# Altium schematic symbol library Converter_DCDC.SchLib: 544 symbols (part 4 of 6)
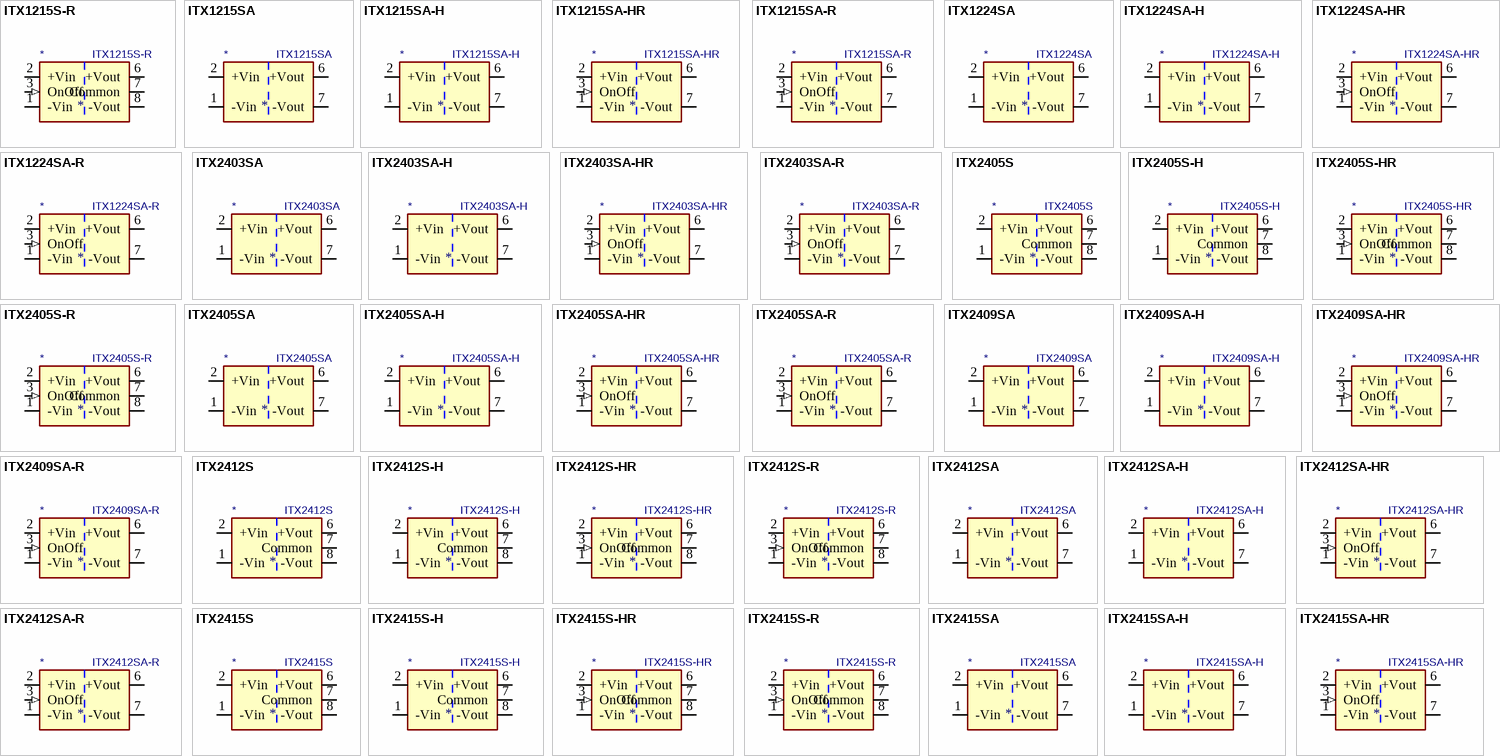
[diagram p16: symbols ITX1215S-R to ITX2415SA-HR]

## ITX1215SA
designator *  value ITX1215SA
ki_keywords: XP_POWER DC/DC isolated Converter module; ki_description: XP Power 6W, 1000 VDC Isolated DC/DC Converter Module, Fully Regulated Single Output Voltage 15V, ±400mA, 12V Input Voltage, SIP; ki_fp_filters: *XP?POWER?ITXxxxxSA*; Footprint: Converter_DCDC:Converter_DCDC_XP_POWER-ITXxxxxSA_THT; Supplier: https://www.xppower.com/pdfs/SF_ITX.pdf
footprint Converter_DCDC_XP_POWER-ITXxxxxSA_THT
pins: 1 -Vin (power), 2 +Vin (power), 6 +Vout (power), 7 -Vout (power), 8 NC (in) hidden

## ITX1215SA-H
designator *  value ITX1215SA-H
ki_keywords: XP_POWER DC/DC isolated Converter module; ki_description: XP Power 6W, 3000 VDC Isolated DC/DC Converter Module, Fully Regulated Single Output Voltage 15V, ±400mA, 12V Input Voltage, SIP; ki_fp_filters: *XP?POWER?ITXxxxxSA*; Footprint: Converter_DCDC:Converter_DCDC_XP_POWER-ITXxxxxSA_THT; Supplier: https://www.xppower.com/pdfs/SF_ITX.pdf
footprint Converter_DCDC_XP_POWER-ITXxxxxSA_THT
pins: 1 -Vin (power), 2 +Vin (power), 6 +Vout (power), 7 -Vout (power), 8 NC (in) hidden

## ITX1215SA-HR
designator *  value ITX1215SA-HR
ki_keywords: XP_POWER DC/DC isolated Converter module; ki_description: XP Power 6W, 3000 VDC Isolated DC/DC Converter Module, Remote Control, Fully Regulated Single Output Voltage 15V, ±400mA, 12V Input Voltage, SIP; ki_fp_filters: *XP?POWER?ITxxxxx*; Footprint: Converter_DCDC:Converter_DCDC_XP_POWER-ITxxxxxS_THT; Supplier: https://www.xppower.com/pdfs/SF_ITX.pdf
footprint Converter_DCDC_XP_POWER-ITxxxxxS_THT
pins: 1 -Vin (power), 2 +Vin (power), 3 OnOff (in), 5 NC (in) hidden, 6 +Vout (power), 7 -Vout (power), 8 NC (in) hidden

## ITX1215SA-R
designator *  value ITX1215SA-R
ki_keywords: XP_POWER DC/DC isolated Converter module; ki_description: XP Power 6W, 1000 VDC Isolated DC/DC Converter Module, Remote Control, Fully Regulated Single Output Voltage 15V, ±400mA, 12V Input Voltage, SIP; ki_fp_filters: *XP?POWER?ITxxxxx*; Footprint: Converter_DCDC:Converter_DCDC_XP_POWER-ITxxxxxS_THT; Supplier: https://www.xppower.com/pdfs/SF_ITX.pdf
footprint Converter_DCDC_XP_POWER-ITxxxxxS_THT
pins: 1 -Vin (power), 2 +Vin (power), 3 OnOff (in), 5 NC (in) hidden, 6 +Vout (power), 7 -Vout (power), 8 NC (in) hidden

## ITX1224SA
designator *  value ITX1224SA
ki_keywords: XP_POWER DC/DC isolated Converter module; ki_description: XP Power 6W, 1000 VDC Isolated DC/DC Converter Module, Fully Regulated Single Output Voltage 24V, ±250mA, 12V Input Voltage, SIP; ki_fp_filters: *XP?POWER?ITXxxxxSA*; Footprint: Converter_DCDC:Converter_DCDC_XP_POWER-ITXxxxxSA_THT; Supplier: https://www.xppower.com/pdfs/SF_ITX.pdf
footprint Converter_DCDC_XP_POWER-ITXxxxxSA_THT
pins: 1 -Vin (power), 2 +Vin (power), 6 +Vout (power), 7 -Vout (power), 8 NC (in) hidden

## ITX1224SA-H
designator *  value ITX1224SA-H
ki_keywords: XP_POWER DC/DC isolated Converter module; ki_description: XP Power 6W, 3000 VDC Isolated DC/DC Converter Module, Fully Regulated Single Output Voltage 24V, ±250mA, 12V Input Voltage, SIP; ki_fp_filters: *XP?POWER?ITXxxxxSA*; Footprint: Converter_DCDC:Converter_DCDC_XP_POWER-ITXxxxxSA_THT; Supplier: https://www.xppower.com/pdfs/SF_ITX.pdf
footprint Converter_DCDC_XP_POWER-ITXxxxxSA_THT
pins: 1 -Vin (power), 2 +Vin (power), 6 +Vout (power), 7 -Vout (power), 8 NC (in) hidden

## ITX1224SA-HR
designator *  value ITX1224SA-HR
ki_keywords: XP_POWER DC/DC isolated Converter module; ki_description: XP Power 6W, 3000 VDC Isolated DC/DC Converter Module, Remote Control, Fully Regulated Single Output Voltage 24V, ±250mA, 12V Input Voltage, SIP; ki_fp_filters: *XP?POWER?ITxxxxx*; Footprint: Converter_DCDC:Converter_DCDC_XP_POWER-ITxxxxxS_THT; Supplier: https://www.xppower.com/pdfs/SF_ITX.pdf
footprint Converter_DCDC_XP_POWER-ITxxxxxS_THT
pins: 1 -Vin (power), 2 +Vin (power), 3 OnOff (in), 5 NC (in) hidden, 6 +Vout (power), 7 -Vout (power), 8 NC (in) hidden

## ITX1224SA-R
designator *  value ITX1224SA-R
ki_keywords: XP_POWER DC/DC isolated Converter module; ki_description: XP Power 6W, 1000 VDC Isolated DC/DC Converter Module, Remote Control, Fully Regulated Single Output Voltage 24V, ±250mA, 12V Input Voltage, SIP; ki_fp_filters: *XP?POWER?ITxxxxx*; Footprint: Converter_DCDC:Converter_DCDC_XP_POWER-ITxxxxxS_THT; Supplier: https://www.xppower.com/pdfs/SF_ITX.pdf
footprint Converter_DCDC_XP_POWER-ITxxxxxS_THT
pins: 1 -Vin (power), 2 +Vin (power), 3 OnOff (in), 5 NC (in) hidden, 6 +Vout (power), 7 -Vout (power), 8 NC (in) hidden

## ITX2403SA
designator *  value ITX2403SA
ki_keywords: XP_POWER DC/DC isolated Converter module; ki_description: XP Power 6W, 1000 VDC Isolated DC/DC Converter Module, Fully Regulated Single Output Voltage 3.3V, ±1300mA, 24V Input Voltage, SIP; ki_fp_filters: *XP?POWER?ITXxxxxSA*; Footprint: Converter_DCDC:Converter_DCDC_XP_POWER-ITXxxxxSA_THT; Supplier: https://www.xppower.com/pdfs/SF_ITX.pdf
footprint Converter_DCDC_XP_POWER-ITXxxxxSA_THT
pins: 1 -Vin (power), 2 +Vin (power), 6 +Vout (power), 7 -Vout (power), 8 NC (in) hidden

## ITX2403SA-H
designator *  value ITX2403SA-H
ki_keywords: XP_POWER DC/DC isolated Converter module; ki_description: XP Power 6W, 3000 VDC Isolated DC/DC Converter Module, Fully Regulated Single Output Voltage 3.3V, ±1300mA, 24V Input Voltage, SIP; ki_fp_filters: *XP?POWER?ITXxxxxSA*; Footprint: Converter_DCDC:Converter_DCDC_XP_POWER-ITXxxxxSA_THT; Supplier: https://www.xppower.com/pdfs/SF_ITX.pdf
footprint Converter_DCDC_XP_POWER-ITXxxxxSA_THT
pins: 1 -Vin (power), 2 +Vin (power), 6 +Vout (power), 7 -Vout (power), 8 NC (in) hidden

## ITX2403SA-HR
designator *  value ITX2403SA-HR
ki_keywords: XP_POWER DC/DC isolated Converter module; ki_description: XP Power 6W, 3000 VDC Isolated DC/DC Converter Module, Remote Control, Fully Regulated Single Output Voltage 3.3V, ±1300mA, 24V Input Voltage, SIP; ki_fp_filters: *XP?POWER?ITxxxxx*; Footprint: Converter_DCDC:Converter_DCDC_XP_POWER-ITxxxxxS_THT; Supplier: https://www.xppower.com/pdfs/SF_ITX.pdf
footprint Converter_DCDC_XP_POWER-ITxxxxxS_THT
pins: 1 -Vin (power), 2 +Vin (power), 3 OnOff (in), 5 NC (in) hidden, 6 +Vout (power), 7 -Vout (power), 8 NC (in) hidden

## ITX2403SA-R
designator *  value ITX2403SA-R
ki_keywords: XP_POWER DC/DC isolated Converter module; ki_description: XP Power 6W, 1000 VDC Isolated DC/DC Converter Module, Remote Control, Fully Regulated Single Output Voltage 3.3V, ±1300mA, 24V Input Voltage, SIP; ki_fp_filters: *XP?POWER?ITxxxxx*; Footprint: Converter_DCDC:Converter_DCDC_XP_POWER-ITxxxxxS_THT; Supplier: https://www.xppower.com/pdfs/SF_ITX.pdf
footprint Converter_DCDC_XP_POWER-ITxxxxxS_THT
pins: 1 -Vin (power), 2 +Vin (power), 3 OnOff (in), 5 NC (in) hidden, 6 +Vout (power), 7 -Vout (power), 8 NC (in) hidden

## ITX2405S
designator *  value ITX2405S
ki_keywords: XP_POWER DC/DC isolated Converter module; ki_description: XP Power 6W, 1000 VDC Isolated DC/DC Converter Module, Fully Regulated Dual Output Voltage ±5V, ±600mA, 24V Input Voltage, SIP; ki_fp_filters: *XP?POWER?ITxxxxx*; Footprint: Converter_DCDC:Converter_DCDC_XP_POWER-ITxxxxxS_THT; Supplier: https://www.xppower.com/pdfs/SF_ITX.pdf
footprint Converter_DCDC_XP_POWER-ITxxxxxS_THT
pins: 1 -Vin (power), 2 +Vin (power), 3 NC (in) hidden, 5 NC (in) hidden, 6 +Vout (power), 7 Common (power), 8 -Vout (power)

## ITX2405S-H
designator *  value ITX2405S-H
ki_keywords: XP_POWER DC/DC isolated Converter module; ki_description: XP Power 6W, 3000 VDC Isolated DC/DC Converter Module, Fully Regulated Dual Output Voltage ±5V, ±600mA, 24V Input Voltage, SIP; ki_fp_filters: *XP?POWER?ITxxxxx*; Footprint: Converter_DCDC:Converter_DCDC_XP_POWER-ITxxxxxS_THT; Supplier: https://www.xppower.com/pdfs/SF_ITX.pdf
footprint Converter_DCDC_XP_POWER-ITxxxxxS_THT
pins: 1 -Vin (power), 2 +Vin (power), 3 NC (in) hidden, 5 NC (in) hidden, 6 +Vout (power), 7 Common (power), 8 -Vout (power)

## ITX2405S-HR
designator *  value ITX2405S-HR
ki_keywords: XP_POWER DC/DC isolated Converter module; ki_description: XP Power 6W, 3000 VDC Isolated DC/DC Converter Module, Remote Control, Fully Regulated Dual Output Voltage ±5V, ±600mA, 24V Input Voltage, SIP; ki_fp_filters: *XP?POWER?ITxxxxx*; Footprint: Converter_DCDC:Converter_DCDC_XP_POWER-ITxxxxxS_THT; Supplier: https://www.xppower.com/pdfs/SF_ITX.pdf
footprint Converter_DCDC_XP_POWER-ITxxxxxS_THT
pins: 1 -Vin (power), 2 +Vin (power), 3 OnOff (in), 5 NC (in) hidden, 6 +Vout (power), 7 Common (power), 8 -Vout (power)

## ITX2405S-R
designator *  value ITX2405S-R
ki_keywords: XP_POWER DC/DC isolated Converter module; ki_description: XP Power 6W, 1000 VDC Isolated DC/DC Converter Module, Remote Control, Fully Regulated Dual Output Voltage ±5V, ±600mA, 24V Input Voltage, SIP; ki_fp_filters: *XP?POWER?ITxxxxx*; Footprint: Converter_DCDC:Converter_DCDC_XP_POWER-ITxxxxxS_THT; Supplier: https://www.xppower.com/pdfs/SF_ITX.pdf
footprint Converter_DCDC_XP_POWER-ITxxxxxS_THT
pins: 1 -Vin (power), 2 +Vin (power), 3 OnOff (in), 5 NC (in) hidden, 6 +Vout (power), 7 Common (power), 8 -Vout (power)

## ITX2405SA
designator *  value ITX2405SA
ki_keywords: XP_POWER DC/DC isolated Converter module; ki_description: XP Power 6W, 1000 VDC Isolated DC/DC Converter Module, Fully Regulated Single Output Voltage 5V, ±1200mA, 24V Input Voltage, SIP; ki_fp_filters: *XP?POWER?ITXxxxxSA*; Footprint: Converter_DCDC:Converter_DCDC_XP_POWER-ITXxxxxSA_THT; Supplier: https://www.xppower.com/pdfs/SF_ITX.pdf
footprint Converter_DCDC_XP_POWER-ITXxxxxSA_THT
pins: 1 -Vin (power), 2 +Vin (power), 6 +Vout (power), 7 -Vout (power), 8 NC (in) hidden

## ITX2405SA-H
designator *  value ITX2405SA-H
ki_keywords: XP_POWER DC/DC isolated Converter module; ki_description: XP Power 6W, 3000 VDC Isolated DC/DC Converter Module, Fully Regulated Single Output Voltage 5V, ±1200mA, 24V Input Voltage, SIP; ki_fp_filters: *XP?POWER?ITXxxxxSA*; Footprint: Converter_DCDC:Converter_DCDC_XP_POWER-ITXxxxxSA_THT; Supplier: https://www.xppower.com/pdfs/SF_ITX.pdf
footprint Converter_DCDC_XP_POWER-ITXxxxxSA_THT
pins: 1 -Vin (power), 2 +Vin (power), 6 +Vout (power), 7 -Vout (power), 8 NC (in) hidden

## ITX2405SA-HR
designator *  value ITX2405SA-HR
ki_keywords: XP_POWER DC/DC isolated Converter module; ki_description: XP Power 6W, 3000 VDC Isolated DC/DC Converter Module, Remote Control, Fully Regulated Single Output Voltage 5V, ±1200mA, 24V Input Voltage, SIP; ki_fp_filters: *XP?POWER?ITxxxxx*; Footprint: Converter_DCDC:Converter_DCDC_XP_POWER-ITxxxxxS_THT; Supplier: https://www.xppower.com/pdfs/SF_ITX.pdf
footprint Converter_DCDC_XP_POWER-ITxxxxxS_THT
pins: 1 -Vin (power), 2 +Vin (power), 3 OnOff (in), 5 NC (in) hidden, 6 +Vout (power), 7 -Vout (power), 8 NC (in) hidden

## ITX2405SA-R
designator *  value ITX2405SA-R
ki_keywords: XP_POWER DC/DC isolated Converter module; ki_description: XP Power 6W, 1000 VDC Isolated DC/DC Converter Module, Remote Control, Fully Regulated Single Output Voltage 5V, ±1200mA, 24V Input Voltage, SIP; ki_fp_filters: *XP?POWER?ITxxxxx*; Footprint: Converter_DCDC:Converter_DCDC_XP_POWER-ITxxxxxS_THT; Supplier: https://www.xppower.com/pdfs/SF_ITX.pdf
footprint Converter_DCDC_XP_POWER-ITxxxxxS_THT
pins: 1 -Vin (power), 2 +Vin (power), 3 OnOff (in), 5 NC (in) hidden, 6 +Vout (power), 7 -Vout (power), 8 NC (in) hidden

## ITX2409SA
designator *  value ITX2409SA
ki_keywords: XP_POWER DC/DC isolated Converter module; ki_description: XP Power 6W, 1000 VDC Isolated DC/DC Converter Module, Fully Regulated Single Output Voltage 9V, ±666mA, 24V Input Voltage, SIP; ki_fp_filters: *XP?POWER?ITXxxxxSA*; Footprint: Converter_DCDC:Converter_DCDC_XP_POWER-ITXxxxxSA_THT; Supplier: https://www.xppower.com/pdfs/SF_ITX.pdf
footprint Converter_DCDC_XP_POWER-ITXxxxxSA_THT
pins: 1 -Vin (power), 2 +Vin (power), 6 +Vout (power), 7 -Vout (power), 8 NC (in) hidden

## ITX2409SA-H
designator *  value ITX2409SA-H
ki_keywords: XP_POWER DC/DC isolated Converter module; ki_description: XP Power 6W, 3000 VDC Isolated DC/DC Converter Module, Fully Regulated Single Output Voltage 9V, ±666mA, 24V Input Voltage, SIP; ki_fp_filters: *XP?POWER?ITXxxxxSA*; Footprint: Converter_DCDC:Converter_DCDC_XP_POWER-ITXxxxxSA_THT; Supplier: https://www.xppower.com/pdfs/SF_ITX.pdf
footprint Converter_DCDC_XP_POWER-ITXxxxxSA_THT
pins: 1 -Vin (power), 2 +Vin (power), 6 +Vout (power), 7 -Vout (power), 8 NC (in) hidden

## ITX2409SA-HR
designator *  value ITX2409SA-HR
ki_keywords: XP_POWER DC/DC isolated Converter module; ki_description: XP Power 6W, 3000 VDC Isolated DC/DC Converter Module, Remote Control, Fully Regulated Single Output Voltage 9V, ±666mA, 24V Input Voltage, SIP; ki_fp_filters: *XP?POWER?ITxxxxx*; Footprint: Converter_DCDC:Converter_DCDC_XP_POWER-ITxxxxxS_THT; Supplier: https://www.xppower.com/pdfs/SF_ITX.pdf
footprint Converter_DCDC_XP_POWER-ITxxxxxS_THT
pins: 1 -Vin (power), 2 +Vin (power), 3 OnOff (in), 5 NC (in) hidden, 6 +Vout (power), 7 -Vout (power), 8 NC (in) hidden

## ITX2409SA-R
designator *  value ITX2409SA-R
ki_keywords: XP_POWER DC/DC isolated Converter module; ki_description: XP Power 6W, 1000 VDC Isolated DC/DC Converter Module, Remote Control, Fully Regulated Single Output Voltage 9V, ±666mA, 24V Input Voltage, SIP; ki_fp_filters: *XP?POWER?ITxxxxx*; Footprint: Converter_DCDC:Converter_DCDC_XP_POWER-ITxxxxxS_THT; Supplier: https://www.xppower.com/pdfs/SF_ITX.pdf
footprint Converter_DCDC_XP_POWER-ITxxxxxS_THT
pins: 1 -Vin (power), 2 +Vin (power), 3 OnOff (in), 5 NC (in) hidden, 6 +Vout (power), 7 -Vout (power), 8 NC (in) hidden

## ITX2412S
designator *  value ITX2412S
ki_keywords: XP_POWER DC/DC isolated Converter module; ki_description: XP Power 6W, 1000 VDC Isolated DC/DC Converter Module, Fully Regulated Dual Output Voltage ±12V, ±250mA, 24V Input Voltage, SIP; ki_fp_filters: *XP?POWER?ITxxxxx*; Footprint: Converter_DCDC:Converter_DCDC_XP_POWER-ITxxxxxS_THT; Supplier: https://www.xppower.com/pdfs/SF_ITX.pdf
footprint Converter_DCDC_XP_POWER-ITxxxxxS_THT
pins: 1 -Vin (power), 2 +Vin (power), 3 NC (in) hidden, 5 NC (in) hidden, 6 +Vout (power), 7 Common (power), 8 -Vout (power)

## ITX2412S-H
designator *  value ITX2412S-H
ki_keywords: XP_POWER DC/DC isolated Converter module; ki_description: XP Power 6W, 3000 VDC Isolated DC/DC Converter Module, Fully Regulated Dual Output Voltage ±12V, ±250mA, 24V Input Voltage, SIP; ki_fp_filters: *XP?POWER?ITxxxxx*; Footprint: Converter_DCDC:Converter_DCDC_XP_POWER-ITxxxxxS_THT; Supplier: https://www.xppower.com/pdfs/SF_ITX.pdf
footprint Converter_DCDC_XP_POWER-ITxxxxxS_THT
pins: 1 -Vin (power), 2 +Vin (power), 3 NC (in) hidden, 5 NC (in) hidden, 6 +Vout (power), 7 Common (power), 8 -Vout (power)

## ITX2412S-HR
designator *  value ITX2412S-HR
ki_keywords: XP_POWER DC/DC isolated Converter module; ki_description: XP Power 6W, 3000 VDC Isolated DC/DC Converter Module, Remote Control, Fully Regulated Dual Output Voltage ±12V, ±250mA, 24V Input Voltage, SIP; ki_fp_filters: *XP?POWER?ITxxxxx*; Footprint: Converter_DCDC:Converter_DCDC_XP_POWER-ITxxxxxS_THT; Supplier: https://www.xppower.com/pdfs/SF_ITX.pdf
footprint Converter_DCDC_XP_POWER-ITxxxxxS_THT
pins: 1 -Vin (power), 2 +Vin (power), 3 OnOff (in), 5 NC (in) hidden, 6 +Vout (power), 7 Common (power), 8 -Vout (power)

## ITX2412S-R
designator *  value ITX2412S-R
ki_keywords: XP_POWER DC/DC isolated Converter module; ki_description: XP Power 6W, 1000 VDC Isolated DC/DC Converter Module, Remote Control, Fully Regulated Dual Output Voltage ±12V, ±250mA, 24V Input Voltage, SIP; ki_fp_filters: *XP?POWER?ITxxxxx*; Footprint: Converter_DCDC:Converter_DCDC_XP_POWER-ITxxxxxS_THT; Supplier: https://www.xppower.com/pdfs/SF_ITX.pdf
footprint Converter_DCDC_XP_POWER-ITxxxxxS_THT
pins: 1 -Vin (power), 2 +Vin (power), 3 OnOff (in), 5 NC (in) hidden, 6 +Vout (power), 7 Common (power), 8 -Vout (power)

## ITX2412SA
designator *  value ITX2412SA
ki_keywords: XP_POWER DC/DC isolated Converter module; ki_description: XP Power 6W, 1000 VDC Isolated DC/DC Converter Module, Fully Regulated Single Output Voltage 12V, ±500mA, 24V Input Voltage, SIP; ki_fp_filters: *XP?POWER?ITXxxxxSA*; Footprint: Converter_DCDC:Converter_DCDC_XP_POWER-ITXxxxxSA_THT; Supplier: https://www.xppower.com/pdfs/SF_ITX.pdf
footprint Converter_DCDC_XP_POWER-ITXxxxxSA_THT
pins: 1 -Vin (power), 2 +Vin (power), 6 +Vout (power), 7 -Vout (power), 8 NC (in) hidden

## ITX2412SA-H
designator *  value ITX2412SA-H
ki_keywords: XP_POWER DC/DC isolated Converter module; ki_description: XP Power 6W, 3000 VDC Isolated DC/DC Converter Module, Fully Regulated Single Output Voltage 12V, ±500mA, 24V Input Voltage, SIP; ki_fp_filters: *XP?POWER?ITXxxxxSA*; Footprint: Converter_DCDC:Converter_DCDC_XP_POWER-ITXxxxxSA_THT; Supplier: https://www.xppower.com/pdfs/SF_ITX.pdf
footprint Converter_DCDC_XP_POWER-ITXxxxxSA_THT
pins: 1 -Vin (power), 2 +Vin (power), 6 +Vout (power), 7 -Vout (power), 8 NC (in) hidden

## ITX2412SA-HR
designator *  value ITX2412SA-HR
ki_keywords: XP_POWER DC/DC isolated Converter module; ki_description: XP Power 6W, 3000 VDC Isolated DC/DC Converter Module, Remote Control, Fully Regulated Single Output Voltage 12V, ±500mA, 24V Input Voltage, SIP; ki_fp_filters: *XP?POWER?ITxxxxx*; Footprint: Converter_DCDC:Converter_DCDC_XP_POWER-ITxxxxxS_THT; Supplier: https://www.xppower.com/pdfs/SF_ITX.pdf
footprint Converter_DCDC_XP_POWER-ITxxxxxS_THT
pins: 1 -Vin (power), 2 +Vin (power), 3 OnOff (in), 5 NC (in) hidden, 6 +Vout (power), 7 -Vout (power), 8 NC (in) hidden

## ITX2412SA-R
designator *  value ITX2412SA-R
ki_keywords: XP_POWER DC/DC isolated Converter module; ki_description: XP Power 6W, 1000 VDC Isolated DC/DC Converter Module, Remote Control, Fully Regulated Single Output Voltage 12V, ±500mA, 24V Input Voltage, SIP; ki_fp_filters: *XP?POWER?ITxxxxx*; Footprint: Converter_DCDC:Converter_DCDC_XP_POWER-ITxxxxxS_THT; Supplier: https://www.xppower.com/pdfs/SF_ITX.pdf
footprint Converter_DCDC_XP_POWER-ITxxxxxS_THT
pins: 1 -Vin (power), 2 +Vin (power), 3 OnOff (in), 5 NC (in) hidden, 6 +Vout (power), 7 -Vout (power), 8 NC (in) hidden

## ITX2415S
designator *  value ITX2415S
ki_keywords: XP_POWER DC/DC isolated Converter module; ki_description: XP Power 6W, 1000 VDC Isolated DC/DC Converter Module, Fully Regulated Dual Output Voltage ±15V, ±200mA, 24V Input Voltage, SIP; ki_fp_filters: *XP?POWER?ITxxxxx*; Footprint: Converter_DCDC:Converter_DCDC_XP_POWER-ITxxxxxS_THT; Supplier: https://www.xppower.com/pdfs/SF_ITX.pdf
footprint Converter_DCDC_XP_POWER-ITxxxxxS_THT
pins: 1 -Vin (power), 2 +Vin (power), 3 NC (in) hidden, 5 NC (in) hidden, 6 +Vout (power), 7 Common (power), 8 -Vout (power)

## ITX2415S-H
designator *  value ITX2415S-H
ki_keywords: XP_POWER DC/DC isolated Converter module; ki_description: XP Power 6W, 3000 VDC Isolated DC/DC Converter Module, Fully Regulated Dual Output Voltage ±15V, ±200mA, 24V Input Voltage, SIP; ki_fp_filters: *XP?POWER?ITxxxxx*; Footprint: Converter_DCDC:Converter_DCDC_XP_POWER-ITxxxxxS_THT; Supplier: https://www.xppower.com/pdfs/SF_ITX.pdf
footprint Converter_DCDC_XP_POWER-ITxxxxxS_THT
pins: 1 -Vin (power), 2 +Vin (power), 3 NC (in) hidden, 5 NC (in) hidden, 6 +Vout (power), 7 Common (power), 8 -Vout (power)

## ITX2415S-HR
designator *  value ITX2415S-HR
ki_keywords: XP_POWER DC/DC isolated Converter module; ki_description: XP Power 6W, 3000 VDC Isolated DC/DC Converter Module, Remote Control, Fully Regulated Dual Output Voltage ±15V, ±200mA, 24V Input Voltage, SIP; ki_fp_filters: *XP?POWER?ITxxxxx*; Footprint: Converter_DCDC:Converter_DCDC_XP_POWER-ITxxxxxS_THT; Supplier: https://www.xppower.com/pdfs/SF_ITX.pdf
footprint Converter_DCDC_XP_POWER-ITxxxxxS_THT
pins: 1 -Vin (power), 2 +Vin (power), 3 OnOff (in), 5 NC (in) hidden, 6 +Vout (power), 7 Common (power), 8 -Vout (power)

## ITX2415S-R
designator *  value ITX2415S-R
ki_keywords: XP_POWER DC/DC isolated Converter module; ki_description: XP Power 6W, 1000 VDC Isolated DC/DC Converter Module, Remote Control, Fully Regulated Dual Output Voltage ±15V, ±200mA, 24V Input Voltage, SIP; ki_fp_filters: *XP?POWER?ITxxxxx*; Footprint: Converter_DCDC:Converter_DCDC_XP_POWER-ITxxxxxS_THT; Supplier: https://www.xppower.com/pdfs/SF_ITX.pdf
footprint Converter_DCDC_XP_POWER-ITxxxxxS_THT
pins: 1 -Vin (power), 2 +Vin (power), 3 OnOff (in), 5 NC (in) hidden, 6 +Vout (power), 7 Common (power), 8 -Vout (power)

## ITX2415SA
designator *  value ITX2415SA
ki_keywords: XP_POWER DC/DC isolated Converter module; ki_description: XP Power 6W, 1000 VDC Isolated DC/DC Converter Module, Fully Regulated Single Output Voltage 15V, ±400mA, 24V Input Voltage, SIP; ki_fp_filters: *XP?POWER?ITXxxxxSA*; Footprint: Converter_DCDC:Converter_DCDC_XP_POWER-ITXxxxxSA_THT; Supplier: https://www.xppower.com/pdfs/SF_ITX.pdf
footprint Converter_DCDC_XP_POWER-ITXxxxxSA_THT
pins: 1 -Vin (power), 2 +Vin (power), 6 +Vout (power), 7 -Vout (power), 8 NC (in) hidden

## ITX2415SA-H
designator *  value ITX2415SA-H
ki_keywords: XP_POWER DC/DC isolated Converter module; ki_description: XP Power 6W, 3000 VDC Isolated DC/DC Converter Module, Fully Regulated Single Output Voltage 15V, ±400mA, 24V Input Voltage, SIP; ki_fp_filters: *XP?POWER?ITXxxxxSA*; Footprint: Converter_DCDC:Converter_DCDC_XP_POWER-ITXxxxxSA_THT; Supplier: https://www.xppower.com/pdfs/SF_ITX.pdf
footprint Converter_DCDC_XP_POWER-ITXxxxxSA_THT
pins: 1 -Vin (power), 2 +Vin (power), 6 +Vout (power), 7 -Vout (power), 8 NC (in) hidden

## ITX2415SA-HR
designator *  value ITX2415SA-HR
ki_keywords: XP_POWER DC/DC isolated Converter module; ki_description: XP Power 6W, 3000 VDC Isolated DC/DC Converter Module, Remote Control, Fully Regulated Single Output Voltage 15V, ±400mA, 24V Input Voltage, SIP; ki_fp_filters: *XP?POWER?ITxxxxx*; Footprint: Converter_DCDC:Converter_DCDC_XP_POWER-ITxxxxxS_THT; Supplier: https://www.xppower.com/pdfs/SF_ITX.pdf
footprint Converter_DCDC_XP_POWER-ITxxxxxS_THT
pins: 1 -Vin (power), 2 +Vin (power), 3 OnOff (in), 5 NC (in) hidden, 6 +Vout (power), 7 -Vout (power), 8 NC (in) hidden

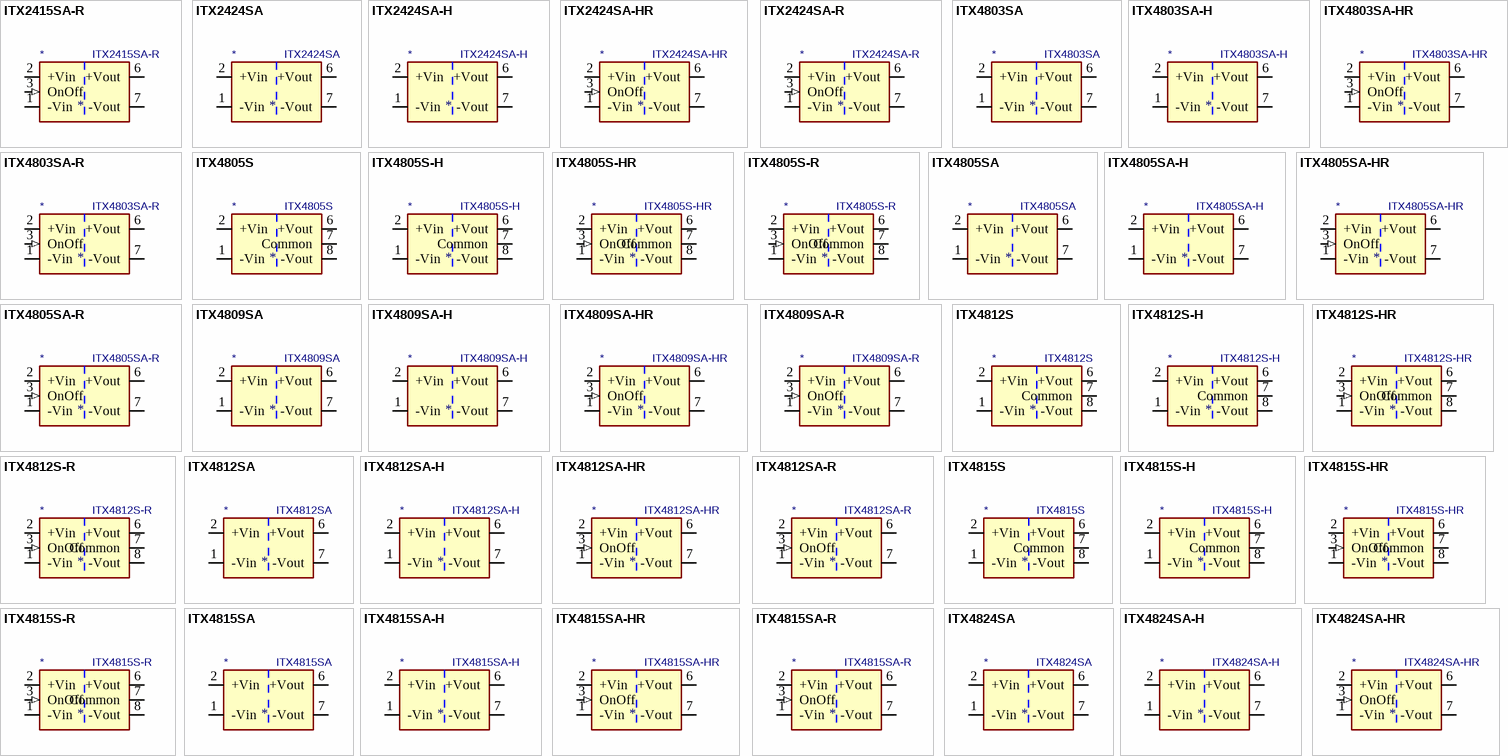
[diagram p8: symbols ITX2415SA-R to ITX4824SA-HR]

## ITX2415SA-R
designator *  value ITX2415SA-R
ki_keywords: XP_POWER DC/DC isolated Converter module; ki_description: XP Power 6W, 1000 VDC Isolated DC/DC Converter Module, Remote Control, Fully Regulated Single Output Voltage 15V, ±400mA, 24V Input Voltage, SIP; ki_fp_filters: *XP?POWER?ITxxxxx*; Footprint: Converter_DCDC:Converter_DCDC_XP_POWER-ITxxxxxS_THT; Supplier: https://www.xppower.com/pdfs/SF_ITX.pdf
footprint Converter_DCDC_XP_POWER-ITxxxxxS_THT
pins: 1 -Vin (power), 2 +Vin (power), 3 OnOff (in), 5 NC (in) hidden, 6 +Vout (power), 7 -Vout (power), 8 NC (in) hidden

## ITX2424SA
designator *  value ITX2424SA
ki_keywords: XP_POWER DC/DC isolated Converter module; ki_description: XP Power 6W, 1000 VDC Isolated DC/DC Converter Module, Fully Regulated Single Output Voltage 24V, ±250mA, 24V Input Voltage, SIP; ki_fp_filters: *XP?POWER?ITXxxxxSA*; Footprint: Converter_DCDC:Converter_DCDC_XP_POWER-ITXxxxxSA_THT; Supplier: https://www.xppower.com/pdfs/SF_ITX.pdf
footprint Converter_DCDC_XP_POWER-ITXxxxxSA_THT
pins: 1 -Vin (power), 2 +Vin (power), 6 +Vout (power), 7 -Vout (power), 8 NC (in) hidden

## ITX2424SA-H
designator *  value ITX2424SA-H
ki_keywords: XP_POWER DC/DC isolated Converter module; ki_description: XP Power 6W, 3000 VDC Isolated DC/DC Converter Module, Fully Regulated Single Output Voltage 24V, ±250mA, 24V Input Voltage, SIP; ki_fp_filters: *XP?POWER?ITXxxxxSA*; Footprint: Converter_DCDC:Converter_DCDC_XP_POWER-ITXxxxxSA_THT; Supplier: https://www.xppower.com/pdfs/SF_ITX.pdf
footprint Converter_DCDC_XP_POWER-ITXxxxxSA_THT
pins: 1 -Vin (power), 2 +Vin (power), 6 +Vout (power), 7 -Vout (power), 8 NC (in) hidden

## ITX2424SA-HR
designator *  value ITX2424SA-HR
ki_keywords: XP_POWER DC/DC isolated Converter module; ki_description: XP Power 6W, 3000 VDC Isolated DC/DC Converter Module, Remote Control, Fully Regulated Single Output Voltage 24V, ±250mA, 24V Input Voltage, SIP; ki_fp_filters: *XP?POWER?ITxxxxx*; Footprint: Converter_DCDC:Converter_DCDC_XP_POWER-ITxxxxxS_THT; Supplier: https://www.xppower.com/pdfs/SF_ITX.pdf
footprint Converter_DCDC_XP_POWER-ITxxxxxS_THT
pins: 1 -Vin (power), 2 +Vin (power), 3 OnOff (in), 5 NC (in) hidden, 6 +Vout (power), 7 -Vout (power), 8 NC (in) hidden

## ITX2424SA-R
designator *  value ITX2424SA-R
ki_keywords: XP_POWER DC/DC isolated Converter module; ki_description: XP Power 6W, 1000 VDC Isolated DC/DC Converter Module, Remote Control, Fully Regulated Single Output Voltage 24V, ±250mA, 24V Input Voltage, SIP; ki_fp_filters: *XP?POWER?ITxxxxx*; Footprint: Converter_DCDC:Converter_DCDC_XP_POWER-ITxxxxxS_THT; Supplier: https://www.xppower.com/pdfs/SF_ITX.pdf
footprint Converter_DCDC_XP_POWER-ITxxxxxS_THT
pins: 1 -Vin (power), 2 +Vin (power), 3 OnOff (in), 5 NC (in) hidden, 6 +Vout (power), 7 -Vout (power), 8 NC (in) hidden

## ITX4803SA
designator *  value ITX4803SA
ki_keywords: XP_POWER DC/DC isolated Converter module; ki_description: XP Power 6W, 1000 VDC Isolated DC/DC Converter Module, Fully Regulated Single Output Voltage 3.3V, ±1300mA, 48V Input Voltage, SIP; ki_fp_filters: *XP?POWER?ITXxxxxSA*; Footprint: Converter_DCDC:Converter_DCDC_XP_POWER-ITXxxxxSA_THT; Supplier: https://www.xppower.com/pdfs/SF_ITX.pdf
footprint Converter_DCDC_XP_POWER-ITXxxxxSA_THT
pins: 1 -Vin (power), 2 +Vin (power), 6 +Vout (power), 7 -Vout (power), 8 NC (in) hidden

## ITX4803SA-H
designator *  value ITX4803SA-H
ki_keywords: XP_POWER DC/DC isolated Converter module; ki_description: XP Power 6W, 3000 VDC Isolated DC/DC Converter Module, Fully Regulated Single Output Voltage 3.3V, ±1300mA, 48V Input Voltage, SIP; ki_fp_filters: *XP?POWER?ITXxxxxSA*; Footprint: Converter_DCDC:Converter_DCDC_XP_POWER-ITXxxxxSA_THT; Supplier: https://www.xppower.com/pdfs/SF_ITX.pdf
footprint Converter_DCDC_XP_POWER-ITXxxxxSA_THT
pins: 1 -Vin (power), 2 +Vin (power), 6 +Vout (power), 7 -Vout (power), 8 NC (in) hidden

## ITX4803SA-HR
designator *  value ITX4803SA-HR
ki_keywords: XP_POWER DC/DC isolated Converter module; ki_description: XP Power 6W, 3000 VDC Isolated DC/DC Converter Module, Remote Control, Fully Regulated Single Output Voltage 3.3V, ±1300mA, 48V Input Voltage, SIP; ki_fp_filters: *XP?POWER?ITxxxxx*; Footprint: Converter_DCDC:Converter_DCDC_XP_POWER-ITxxxxxS_THT; Supplier: https://www.xppower.com/pdfs/SF_ITX.pdf
footprint Converter_DCDC_XP_POWER-ITxxxxxS_THT
pins: 1 -Vin (power), 2 +Vin (power), 3 OnOff (in), 5 NC (in) hidden, 6 +Vout (power), 7 -Vout (power), 8 NC (in) hidden

## ITX4803SA-R
designator *  value ITX4803SA-R
ki_keywords: XP_POWER DC/DC isolated Converter module; ki_description: XP Power 6W, 1000 VDC Isolated DC/DC Converter Module, Remote Control, Fully Regulated Single Output Voltage 3.3V, ±1300mA, 48V Input Voltage, SIP; ki_fp_filters: *XP?POWER?ITxxxxx*; Footprint: Converter_DCDC:Converter_DCDC_XP_POWER-ITxxxxxS_THT; Supplier: https://www.xppower.com/pdfs/SF_ITX.pdf
footprint Converter_DCDC_XP_POWER-ITxxxxxS_THT
pins: 1 -Vin (power), 2 +Vin (power), 3 OnOff (in), 5 NC (in) hidden, 6 +Vout (power), 7 -Vout (power), 8 NC (in) hidden

## ITX4805S
designator *  value ITX4805S
ki_keywords: XP_POWER DC/DC isolated Converter module; ki_description: XP Power 6W, 1000 VDC Isolated DC/DC Converter Module, Fully Regulated Dual Output Voltage ±5V, ±600mA, 48V Input Voltage, SIP; ki_fp_filters: *XP?POWER?ITxxxxx*; Footprint: Converter_DCDC:Converter_DCDC_XP_POWER-ITxxxxxS_THT; Supplier: https://www.xppower.com/pdfs/SF_ITX.pdf
footprint Converter_DCDC_XP_POWER-ITxxxxxS_THT
pins: 1 -Vin (power), 2 +Vin (power), 3 NC (in) hidden, 5 NC (in) hidden, 6 +Vout (power), 7 Common (power), 8 -Vout (power)

## ITX4805S-H
designator *  value ITX4805S-H
ki_keywords: XP_POWER DC/DC isolated Converter module; ki_description: XP Power 6W, 3000 VDC Isolated DC/DC Converter Module, Fully Regulated Dual Output Voltage ±5V, ±600mA, 48V Input Voltage, SIP; ki_fp_filters: *XP?POWER?ITxxxxx*; Footprint: Converter_DCDC:Converter_DCDC_XP_POWER-ITxxxxxS_THT; Supplier: https://www.xppower.com/pdfs/SF_ITX.pdf
footprint Converter_DCDC_XP_POWER-ITxxxxxS_THT
pins: 1 -Vin (power), 2 +Vin (power), 3 NC (in) hidden, 5 NC (in) hidden, 6 +Vout (power), 7 Common (power), 8 -Vout (power)

## ITX4805S-HR
designator *  value ITX4805S-HR
ki_keywords: XP_POWER DC/DC isolated Converter module; ki_description: XP Power 6W, 3000 VDC Isolated DC/DC Converter Module, Remote Control, Fully Regulated Dual Output Voltage ±5V, ±600mA, 48V Input Voltage, SIP; ki_fp_filters: *XP?POWER?ITxxxxx*; Footprint: Converter_DCDC:Converter_DCDC_XP_POWER-ITxxxxxS_THT; Supplier: https://www.xppower.com/pdfs/SF_ITX.pdf
footprint Converter_DCDC_XP_POWER-ITxxxxxS_THT
pins: 1 -Vin (power), 2 +Vin (power), 3 OnOff (in), 5 NC (in) hidden, 6 +Vout (power), 7 Common (power), 8 -Vout (power)

## ITX4805S-R
designator *  value ITX4805S-R
ki_keywords: XP_POWER DC/DC isolated Converter module; ki_description: XP Power 6W, 1000 VDC Isolated DC/DC Converter Module, Remote Control, Fully Regulated Dual Output Voltage ±5V, ±600mA, 48V Input Voltage, SIP; ki_fp_filters: *XP?POWER?ITxxxxx*; Footprint: Converter_DCDC:Converter_DCDC_XP_POWER-ITxxxxxS_THT; Supplier: https://www.xppower.com/pdfs/SF_ITX.pdf
footprint Converter_DCDC_XP_POWER-ITxxxxxS_THT
pins: 1 -Vin (power), 2 +Vin (power), 3 OnOff (in), 5 NC (in) hidden, 6 +Vout (power), 7 Common (power), 8 -Vout (power)

## ITX4805SA
designator *  value ITX4805SA
ki_keywords: XP_POWER DC/DC isolated Converter module; ki_description: XP Power 6W, 1000 VDC Isolated DC/DC Converter Module, Fully Regulated Single Output Voltage 5V, ±1200mA, 48V Input Voltage, SIP; ki_fp_filters: *XP?POWER?ITXxxxxSA*; Footprint: Converter_DCDC:Converter_DCDC_XP_POWER-ITXxxxxSA_THT; Supplier: https://www.xppower.com/pdfs/SF_ITX.pdf
footprint Converter_DCDC_XP_POWER-ITXxxxxSA_THT
pins: 1 -Vin (power), 2 +Vin (power), 6 +Vout (power), 7 -Vout (power), 8 NC (in) hidden

## ITX4805SA-H
designator *  value ITX4805SA-H
ki_keywords: XP_POWER DC/DC isolated Converter module; ki_description: XP Power 6W, 3000 VDC Isolated DC/DC Converter Module, Fully Regulated Single Output Voltage 5V, ±1200mA, 48V Input Voltage, SIP; ki_fp_filters: *XP?POWER?ITXxxxxSA*; Footprint: Converter_DCDC:Converter_DCDC_XP_POWER-ITXxxxxSA_THT; Supplier: https://www.xppower.com/pdfs/SF_ITX.pdf
footprint Converter_DCDC_XP_POWER-ITXxxxxSA_THT
pins: 1 -Vin (power), 2 +Vin (power), 6 +Vout (power), 7 -Vout (power), 8 NC (in) hidden

## ITX4805SA-HR
designator *  value ITX4805SA-HR
ki_keywords: XP_POWER DC/DC isolated Converter module; ki_description: XP Power 6W, 3000 VDC Isolated DC/DC Converter Module, Remote Control, Fully Regulated Single Output Voltage 5V, ±1200mA, 48V Input Voltage, SIP; ki_fp_filters: *XP?POWER?ITxxxxx*; Footprint: Converter_DCDC:Converter_DCDC_XP_POWER-ITxxxxxS_THT; Supplier: https://www.xppower.com/pdfs/SF_ITX.pdf
footprint Converter_DCDC_XP_POWER-ITxxxxxS_THT
pins: 1 -Vin (power), 2 +Vin (power), 3 OnOff (in), 5 NC (in) hidden, 6 +Vout (power), 7 -Vout (power), 8 NC (in) hidden

## ITX4805SA-R
designator *  value ITX4805SA-R
ki_keywords: XP_POWER DC/DC isolated Converter module; ki_description: XP Power 6W, 1000 VDC Isolated DC/DC Converter Module, Remote Control, Fully Regulated Single Output Voltage 5V, ±1200mA, 48V Input Voltage, SIP; ki_fp_filters: *XP?POWER?ITxxxxx*; Footprint: Converter_DCDC:Converter_DCDC_XP_POWER-ITxxxxxS_THT; Supplier: https://www.xppower.com/pdfs/SF_ITX.pdf
footprint Converter_DCDC_XP_POWER-ITxxxxxS_THT
pins: 1 -Vin (power), 2 +Vin (power), 3 OnOff (in), 5 NC (in) hidden, 6 +Vout (power), 7 -Vout (power), 8 NC (in) hidden

## ITX4809SA
designator *  value ITX4809SA
ki_keywords: XP_POWER DC/DC isolated Converter module; ki_description: XP Power 6W, 1000 VDC Isolated DC/DC Converter Module, Fully Regulated Single Output Voltage 9V, ±666mA, 48V Input Voltage, SIP; ki_fp_filters: *XP?POWER?ITXxxxxSA*; Footprint: Converter_DCDC:Converter_DCDC_XP_POWER-ITXxxxxSA_THT; Supplier: https://www.xppower.com/pdfs/SF_ITX.pdf
footprint Converter_DCDC_XP_POWER-ITXxxxxSA_THT
pins: 1 -Vin (power), 2 +Vin (power), 6 +Vout (power), 7 -Vout (power), 8 NC (in) hidden

## ITX4809SA-H
designator *  value ITX4809SA-H
ki_keywords: XP_POWER DC/DC isolated Converter module; ki_description: XP Power 6W, 3000 VDC Isolated DC/DC Converter Module, Fully Regulated Single Output Voltage 9V, ±666mA, 48V Input Voltage, SIP; ki_fp_filters: *XP?POWER?ITXxxxxSA*; Footprint: Converter_DCDC:Converter_DCDC_XP_POWER-ITXxxxxSA_THT; Supplier: https://www.xppower.com/pdfs/SF_ITX.pdf
footprint Converter_DCDC_XP_POWER-ITXxxxxSA_THT
pins: 1 -Vin (power), 2 +Vin (power), 6 +Vout (power), 7 -Vout (power), 8 NC (in) hidden

## ITX4809SA-HR
designator *  value ITX4809SA-HR
ki_keywords: XP_POWER DC/DC isolated Converter module; ki_description: XP Power 6W, 3000 VDC Isolated DC/DC Converter Module, Remote Control, Fully Regulated Single Output Voltage 9V, ±666mA, 48V Input Voltage, SIP; ki_fp_filters: *XP?POWER?ITxxxxx*; Footprint: Converter_DCDC:Converter_DCDC_XP_POWER-ITxxxxxS_THT; Supplier: https://www.xppower.com/pdfs/SF_ITX.pdf
footprint Converter_DCDC_XP_POWER-ITxxxxxS_THT
pins: 1 -Vin (power), 2 +Vin (power), 3 OnOff (in), 5 NC (in) hidden, 6 +Vout (power), 7 -Vout (power), 8 NC (in) hidden

## ITX4809SA-R
designator *  value ITX4809SA-R
ki_keywords: XP_POWER DC/DC isolated Converter module; ki_description: XP Power 6W, 1000 VDC Isolated DC/DC Converter Module, Remote Control, Fully Regulated Single Output Voltage 9V, ±666mA, 48V Input Voltage, SIP; ki_fp_filters: *XP?POWER?ITxxxxx*; Footprint: Converter_DCDC:Converter_DCDC_XP_POWER-ITxxxxxS_THT; Supplier: https://www.xppower.com/pdfs/SF_ITX.pdf
footprint Converter_DCDC_XP_POWER-ITxxxxxS_THT
pins: 1 -Vin (power), 2 +Vin (power), 3 OnOff (in), 5 NC (in) hidden, 6 +Vout (power), 7 -Vout (power), 8 NC (in) hidden

## ITX4812S
designator *  value ITX4812S
ki_keywords: XP_POWER DC/DC isolated Converter module; ki_description: XP Power 6W, 1000 VDC Isolated DC/DC Converter Module, Fully Regulated Dual Output Voltage ±12V, ±250mA, 48V Input Voltage, SIP; ki_fp_filters: *XP?POWER?ITxxxxx*; Footprint: Converter_DCDC:Converter_DCDC_XP_POWER-ITxxxxxS_THT; Supplier: https://www.xppower.com/pdfs/SF_ITX.pdf
footprint Converter_DCDC_XP_POWER-ITxxxxxS_THT
pins: 1 -Vin (power), 2 +Vin (power), 3 NC (in) hidden, 5 NC (in) hidden, 6 +Vout (power), 7 Common (power), 8 -Vout (power)

## ITX4812S-H
designator *  value ITX4812S-H
ki_keywords: XP_POWER DC/DC isolated Converter module; ki_description: XP Power 6W, 3000 VDC Isolated DC/DC Converter Module, Fully Regulated Dual Output Voltage ±12V, ±250mA, 48V Input Voltage, SIP; ki_fp_filters: *XP?POWER?ITxxxxx*; Footprint: Converter_DCDC:Converter_DCDC_XP_POWER-ITxxxxxS_THT; Supplier: https://www.xppower.com/pdfs/SF_ITX.pdf
footprint Converter_DCDC_XP_POWER-ITxxxxxS_THT
pins: 1 -Vin (power), 2 +Vin (power), 3 NC (in) hidden, 5 NC (in) hidden, 6 +Vout (power), 7 Common (power), 8 -Vout (power)

## ITX4812S-HR
designator *  value ITX4812S-HR
ki_keywords: XP_POWER DC/DC isolated Converter module; ki_description: XP Power 6W, 3000 VDC Isolated DC/DC Converter Module, Remote Control, Fully Regulated Dual Output Voltage ±12V, ±250mA, 48V Input Voltage, SIP; ki_fp_filters: *XP?POWER?ITxxxxx*; Footprint: Converter_DCDC:Converter_DCDC_XP_POWER-ITxxxxxS_THT; Supplier: https://www.xppower.com/pdfs/SF_ITX.pdf
footprint Converter_DCDC_XP_POWER-ITxxxxxS_THT
pins: 1 -Vin (power), 2 +Vin (power), 3 OnOff (in), 5 NC (in) hidden, 6 +Vout (power), 7 Common (power), 8 -Vout (power)

## ITX4812S-R
designator *  value ITX4812S-R
ki_keywords: XP_POWER DC/DC isolated Converter module; ki_description: XP Power 6W, 1000 VDC Isolated DC/DC Converter Module, Remote Control, Fully Regulated Dual Output Voltage ±12V, ±250mA, 48V Input Voltage, SIP; ki_fp_filters: *XP?POWER?ITxxxxx*; Footprint: Converter_DCDC:Converter_DCDC_XP_POWER-ITxxxxxS_THT; Supplier: https://www.xppower.com/pdfs/SF_ITX.pdf
footprint Converter_DCDC_XP_POWER-ITxxxxxS_THT
pins: 1 -Vin (power), 2 +Vin (power), 3 OnOff (in), 5 NC (in) hidden, 6 +Vout (power), 7 Common (power), 8 -Vout (power)

## ITX4812SA
designator *  value ITX4812SA
ki_keywords: XP_POWER DC/DC isolated Converter module; ki_description: XP Power 6W, 1000 VDC Isolated DC/DC Converter Module, Fully Regulated Single Output Voltage 12V, ±500mA, 48V Input Voltage, SIP; ki_fp_filters: *XP?POWER?ITXxxxxSA*; Footprint: Converter_DCDC:Converter_DCDC_XP_POWER-ITXxxxxSA_THT; Supplier: https://www.xppower.com/pdfs/SF_ITX.pdf
footprint Converter_DCDC_XP_POWER-ITXxxxxSA_THT
pins: 1 -Vin (power), 2 +Vin (power), 6 +Vout (power), 7 -Vout (power), 8 NC (in) hidden

## ITX4812SA-H
designator *  value ITX4812SA-H
ki_keywords: XP_POWER DC/DC isolated Converter module; ki_description: XP Power 6W, 3000 VDC Isolated DC/DC Converter Module, Fully Regulated Single Output Voltage 12V, ±500mA, 48V Input Voltage, SIP; ki_fp_filters: *XP?POWER?ITXxxxxSA*; Footprint: Converter_DCDC:Converter_DCDC_XP_POWER-ITXxxxxSA_THT; Supplier: https://www.xppower.com/pdfs/SF_ITX.pdf
footprint Converter_DCDC_XP_POWER-ITXxxxxSA_THT
pins: 1 -Vin (power), 2 +Vin (power), 6 +Vout (power), 7 -Vout (power), 8 NC (in) hidden

## ITX4812SA-HR
designator *  value ITX4812SA-HR
ki_keywords: XP_POWER DC/DC isolated Converter module; ki_description: XP Power 6W, 3000 VDC Isolated DC/DC Converter Module, Remote Control, Fully Regulated Single Output Voltage 12V, ±500mA, 48V Input Voltage, SIP; ki_fp_filters: *XP?POWER?ITxxxxx*; Footprint: Converter_DCDC:Converter_DCDC_XP_POWER-ITxxxxxS_THT; Supplier: https://www.xppower.com/pdfs/SF_ITX.pdf
footprint Converter_DCDC_XP_POWER-ITxxxxxS_THT
pins: 1 -Vin (power), 2 +Vin (power), 3 OnOff (in), 5 NC (in) hidden, 6 +Vout (power), 7 -Vout (power), 8 NC (in) hidden

## ITX4812SA-R
designator *  value ITX4812SA-R
ki_keywords: XP_POWER DC/DC isolated Converter module; ki_description: XP Power 6W, 1000 VDC Isolated DC/DC Converter Module, Remote Control, Fully Regulated Single Output Voltage 12V, ±500mA, 48V Input Voltage, SIP; ki_fp_filters: *XP?POWER?ITxxxxx*; Footprint: Converter_DCDC:Converter_DCDC_XP_POWER-ITxxxxxS_THT; Supplier: https://www.xppower.com/pdfs/SF_ITX.pdf
footprint Converter_DCDC_XP_POWER-ITxxxxxS_THT
pins: 1 -Vin (power), 2 +Vin (power), 3 OnOff (in), 5 NC (in) hidden, 6 +Vout (power), 7 -Vout (power), 8 NC (in) hidden

## ITX4815S
designator *  value ITX4815S
ki_keywords: XP_POWER DC/DC isolated Converter module; ki_description: XP Power 6W, 1000 VDC Isolated DC/DC Converter Module, Fully Regulated Dual Output Voltage ±15V, ±200mA, 48V Input Voltage, SIP; ki_fp_filters: *XP?POWER?ITxxxxx*; Footprint: Converter_DCDC:Converter_DCDC_XP_POWER-ITxxxxxS_THT; Supplier: https://www.xppower.com/pdfs/SF_ITX.pdf
footprint Converter_DCDC_XP_POWER-ITxxxxxS_THT
pins: 1 -Vin (power), 2 +Vin (power), 3 NC (in) hidden, 5 NC (in) hidden, 6 +Vout (power), 7 Common (power), 8 -Vout (power)

## ITX4815S-H
designator *  value ITX4815S-H
ki_keywords: XP_POWER DC/DC isolated Converter module; ki_description: XP Power 6W, 3000 VDC Isolated DC/DC Converter Module, Fully Regulated Dual Output Voltage ±15V, ±200mA, 48V Input Voltage, SIP; ki_fp_filters: *XP?POWER?ITxxxxx*; Footprint: Converter_DCDC:Converter_DCDC_XP_POWER-ITxxxxxS_THT; Supplier: https://www.xppower.com/pdfs/SF_ITX.pdf
footprint Converter_DCDC_XP_POWER-ITxxxxxS_THT
pins: 1 -Vin (power), 2 +Vin (power), 3 NC (in) hidden, 5 NC (in) hidden, 6 +Vout (power), 7 Common (power), 8 -Vout (power)

## ITX4815S-HR
designator *  value ITX4815S-HR
ki_keywords: XP_POWER DC/DC isolated Converter module; ki_description: XP Power 6W, 3000 VDC Isolated DC/DC Converter Module, Remote Control, Fully Regulated Dual Output Voltage ±15V, ±200mA, 48V Input Voltage, SIP; ki_fp_filters: *XP?POWER?ITxxxxx*; Footprint: Converter_DCDC:Converter_DCDC_XP_POWER-ITxxxxxS_THT; Supplier: https://www.xppower.com/pdfs/SF_ITX.pdf
footprint Converter_DCDC_XP_POWER-ITxxxxxS_THT
pins: 1 -Vin (power), 2 +Vin (power), 3 OnOff (in), 5 NC (in) hidden, 6 +Vout (power), 7 Common (power), 8 -Vout (power)

## ITX4815S-R
designator *  value ITX4815S-R
ki_keywords: XP_POWER DC/DC isolated Converter module; ki_description: XP Power 6W, 1000 VDC Isolated DC/DC Converter Module, Remote Control, Fully Regulated Dual Output Voltage ±15V, ±200mA, 48V Input Voltage, SIP; ki_fp_filters: *XP?POWER?ITxxxxx*; Footprint: Converter_DCDC:Converter_DCDC_XP_POWER-ITxxxxxS_THT; Supplier: https://www.xppower.com/pdfs/SF_ITX.pdf
footprint Converter_DCDC_XP_POWER-ITxxxxxS_THT
pins: 1 -Vin (power), 2 +Vin (power), 3 OnOff (in), 5 NC (in) hidden, 6 +Vout (power), 7 Common (power), 8 -Vout (power)

## ITX4815SA
designator *  value ITX4815SA
ki_keywords: XP_POWER DC/DC isolated Converter module; ki_description: XP Power 6W, 1000 VDC Isolated DC/DC Converter Module, Fully Regulated Single Output Voltage 15V, ±400mA, 48V Input Voltage, SIP; ki_fp_filters: *XP?POWER?ITXxxxxSA*; Footprint: Converter_DCDC:Converter_DCDC_XP_POWER-ITXxxxxSA_THT; Supplier: https://www.xppower.com/pdfs/SF_ITX.pdf
footprint Converter_DCDC_XP_POWER-ITXxxxxSA_THT
pins: 1 -Vin (power), 2 +Vin (power), 6 +Vout (power), 7 -Vout (power), 8 NC (in) hidden

## ITX4815SA-H
designator *  value ITX4815SA-H
ki_keywords: XP_POWER DC/DC isolated Converter module; ki_description: XP Power 6W, 3000 VDC Isolated DC/DC Converter Module, Fully Regulated Single Output Voltage 15V, ±400mA, 48V Input Voltage, SIP; ki_fp_filters: *XP?POWER?ITXxxxxSA*; Footprint: Converter_DCDC:Converter_DCDC_XP_POWER-ITXxxxxSA_THT; Supplier: https://www.xppower.com/pdfs/SF_ITX.pdf
footprint Converter_DCDC_XP_POWER-ITXxxxxSA_THT
pins: 1 -Vin (power), 2 +Vin (power), 6 +Vout (power), 7 -Vout (power), 8 NC (in) hidden

## ITX4815SA-HR
designator *  value ITX4815SA-HR
ki_keywords: XP_POWER DC/DC isolated Converter module; ki_description: XP Power 6W, 3000 VDC Isolated DC/DC Converter Module, Remote Control, Fully Regulated Single Output Voltage 15V, ±400mA, 48V Input Voltage, SIP; ki_fp_filters: *XP?POWER?ITxxxxx*; Footprint: Converter_DCDC:Converter_DCDC_XP_POWER-ITxxxxxS_THT; Supplier: https://www.xppower.com/pdfs/SF_ITX.pdf
footprint Converter_DCDC_XP_POWER-ITxxxxxS_THT
pins: 1 -Vin (power), 2 +Vin (power), 3 OnOff (in), 5 NC (in) hidden, 6 +Vout (power), 7 -Vout (power), 8 NC (in) hidden

## ITX4815SA-R
designator *  value ITX4815SA-R
ki_keywords: XP_POWER DC/DC isolated Converter module; ki_description: XP Power 6W, 1000 VDC Isolated DC/DC Converter Module, Remote Control, Fully Regulated Single Output Voltage 15V, ±400mA, 48V Input Voltage, SIP; ki_fp_filters: *XP?POWER?ITxxxxx*; Footprint: Converter_DCDC:Converter_DCDC_XP_POWER-ITxxxxxS_THT; Supplier: https://www.xppower.com/pdfs/SF_ITX.pdf
footprint Converter_DCDC_XP_POWER-ITxxxxxS_THT
pins: 1 -Vin (power), 2 +Vin (power), 3 OnOff (in), 5 NC (in) hidden, 6 +Vout (power), 7 -Vout (power), 8 NC (in) hidden

## ITX4824SA
designator *  value ITX4824SA
ki_keywords: XP_POWER DC/DC isolated Converter module; ki_description: XP Power 6W, 1000 VDC Isolated DC/DC Converter Module, Fully Regulated Single Output Voltage 24V, ±250mA, 48V Input Voltage, SIP; ki_fp_filters: *XP?POWER?ITXxxxxSA*; Footprint: Converter_DCDC:Converter_DCDC_XP_POWER-ITXxxxxSA_THT; Supplier: https://www.xppower.com/pdfs/SF_ITX.pdf
footprint Converter_DCDC_XP_POWER-ITXxxxxSA_THT
pins: 1 -Vin (power), 2 +Vin (power), 6 +Vout (power), 7 -Vout (power), 8 NC (in) hidden

## ITX4824SA-H
designator *  value ITX4824SA-H
ki_keywords: XP_POWER DC/DC isolated Converter module; ki_description: XP Power 6W, 3000 VDC Isolated DC/DC Converter Module, Fully Regulated Single Output Voltage 24V, ±250mA, 48V Input Voltage, SIP; ki_fp_filters: *XP?POWER?ITXxxxxSA*; Footprint: Converter_DCDC:Converter_DCDC_XP_POWER-ITXxxxxSA_THT; Supplier: https://www.xppower.com/pdfs/SF_ITX.pdf
footprint Converter_DCDC_XP_POWER-ITXxxxxSA_THT
pins: 1 -Vin (power), 2 +Vin (power), 6 +Vout (power), 7 -Vout (power), 8 NC (in) hidden

## ITX4824SA-HR
designator *  value ITX4824SA-HR
ki_keywords: XP_POWER DC/DC isolated Converter module; ki_description: XP Power 6W, 3000 VDC Isolated DC/DC Converter Module, Remote Control, Fully Regulated Single Output Voltage 24V, ±250mA, 48V Input Voltage, SIP; ki_fp_filters: *XP?POWER?ITxxxxx*; Footprint: Converter_DCDC:Converter_DCDC_XP_POWER-ITxxxxxS_THT; Supplier: https://www.xppower.com/pdfs/SF_ITX.pdf
footprint Converter_DCDC_XP_POWER-ITxxxxxS_THT
pins: 1 -Vin (power), 2 +Vin (power), 3 OnOff (in), 5 NC (in) hidden, 6 +Vout (power), 7 -Vout (power), 8 NC (in) hidden

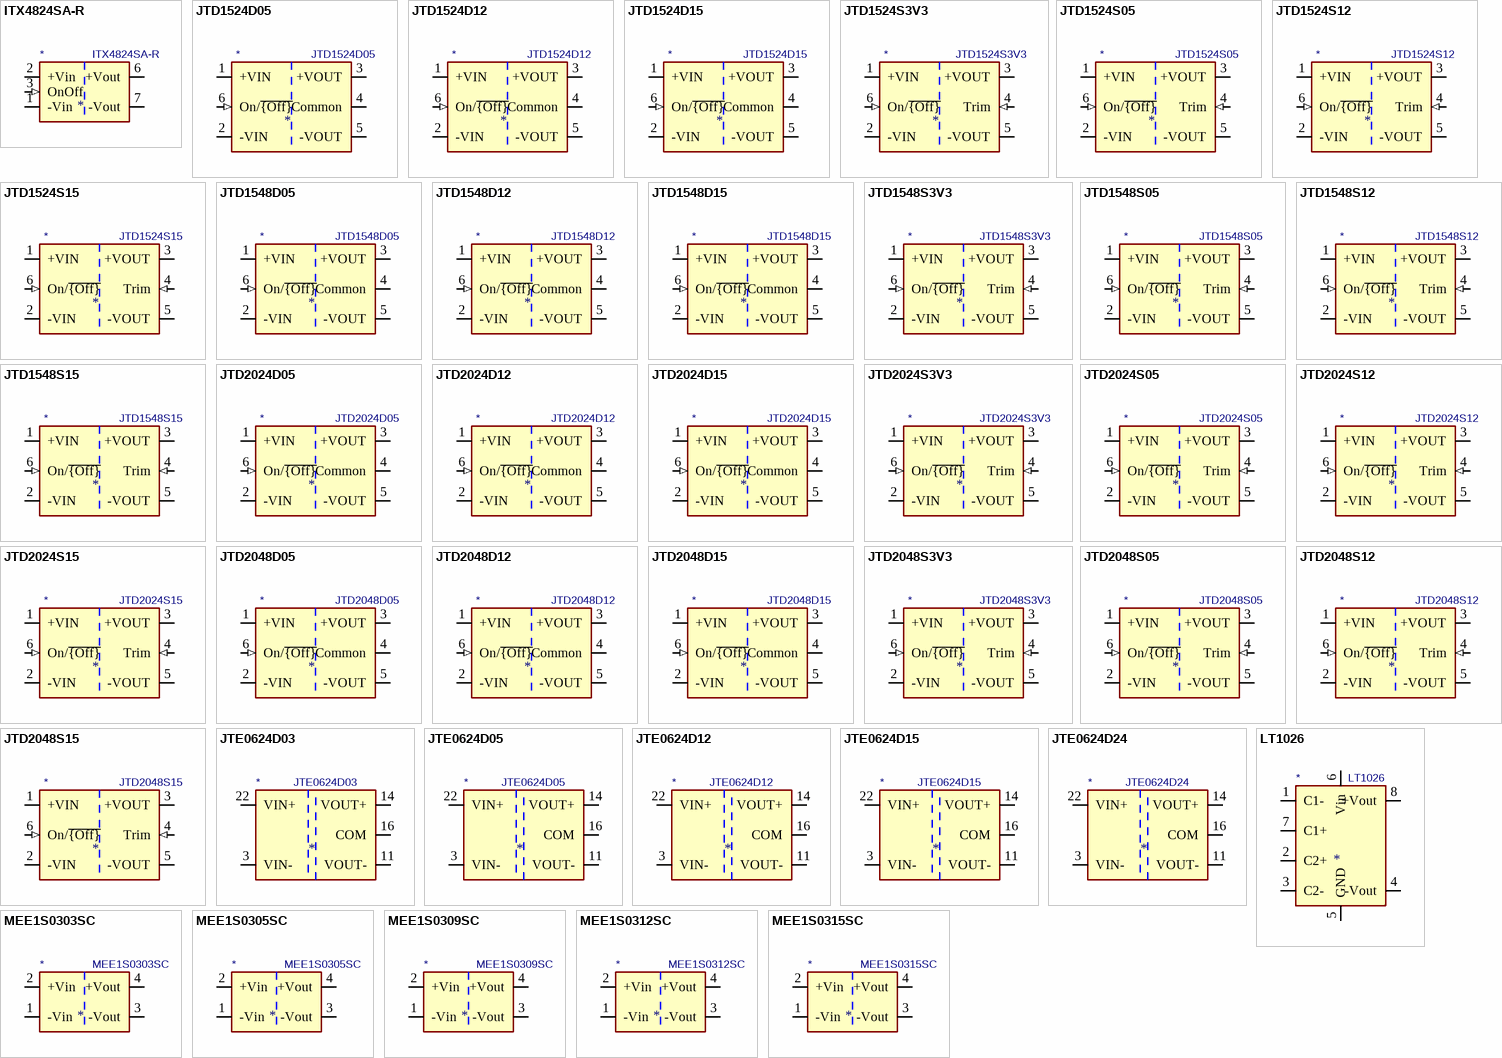
[diagram p9: symbols ITX4824SA-R to MEE1S0315SC]

## ITX4824SA-R
designator *  value ITX4824SA-R
ki_keywords: XP_POWER DC/DC isolated Converter module; ki_description: XP Power 6W, 1000 VDC Isolated DC/DC Converter Module, Remote Control, Fully Regulated Single Output Voltage 24V, ±250mA, 48V Input Voltage, SIP; ki_fp_filters: *XP?POWER?ITxxxxx*; Footprint: Converter_DCDC:Converter_DCDC_XP_POWER-ITxxxxxS_THT; Supplier: https://www.xppower.com/pdfs/SF_ITX.pdf
footprint Converter_DCDC_XP_POWER-ITxxxxxS_THT
pins: 1 -Vin (power), 2 +Vin (power), 3 OnOff (in), 5 NC (in) hidden, 6 +Vout (power), 7 -Vout (power), 8 NC (in) hidden

## JTD1524D05
designator *  value JTD1524D05
ki_keywords: isolated isolation dc-dc converter step-down dual; ki_description: Isolated 15W 4:1 input DC/DC converter module, 9-36V input voltage, +/-5V output voltage, DIP; ki_fp_filters: Converter*DCDC*XP?POWER*JTDxxxxxxx*; Footprint: Converter_DCDC:Converter_DCDC_XP_POWER_JTDxxxxxxx_THT; Supplier: https://www.xppower.com/portals/0/pdfs/SF_JTD15.pdf
footprint Converter_DCDC_XP_POWER_JTDxxxxxxx_THT
pins: 1 +VIN (power), 2 -VIN (power), 3 +VOUT (power), 4 Common (power), 5 -VOUT (power), 6 On/~{{Off}} (in)

## JTD1524D12
designator *  value JTD1524D12
ki_keywords: isolated isolation dc-dc converter step-down dual; ki_description: Isolated 15W 4:1 input DC/DC converter module, 9-36V input voltage, +/-12V output voltage, DIP; ki_fp_filters: Converter*DCDC*XP?POWER*JTDxxxxxxx*; Footprint: Converter_DCDC:Converter_DCDC_XP_POWER_JTDxxxxxxx_THT; Supplier: https://www.xppower.com/portals/0/pdfs/SF_JTD15.pdf
footprint Converter_DCDC_XP_POWER_JTDxxxxxxx_THT
pins: 1 +VIN (power), 2 -VIN (power), 3 +VOUT (power), 4 Common (power), 5 -VOUT (power), 6 On/~{{Off}} (in)

## JTD1524D15
designator *  value JTD1524D15
ki_keywords: isolated isolation dc-dc converter step-down dual; ki_description: Isolated 15W 4:1 input DC/DC converter module, 9-36V input voltage, +/-15V output voltage, DIP; ki_fp_filters: Converter*DCDC*XP?POWER*JTDxxxxxxx*; Footprint: Converter_DCDC:Converter_DCDC_XP_POWER_JTDxxxxxxx_THT; Supplier: https://www.xppower.com/portals/0/pdfs/SF_JTD15.pdf
footprint Converter_DCDC_XP_POWER_JTDxxxxxxx_THT
pins: 1 +VIN (power), 2 -VIN (power), 3 +VOUT (power), 4 Common (power), 5 -VOUT (power), 6 On/~{{Off}} (in)

## JTD1524S3V3
designator *  value JTD1524S3V3
ki_keywords: isolated isolation dc-dc converter step-down; ki_description: Isolated 15W 4:1 input DC/DC converter module, 9-36V input voltage, 3.3V output voltage, DIP; ki_fp_filters: Converter*DCDC*XP?POWER*JTDxxxxxxx*; Footprint: Converter_DCDC:Converter_DCDC_XP_POWER_JTDxxxxxxx_THT; Supplier: https://www.xppower.com/portals/0/pdfs/SF_JTD15.pdf
footprint Converter_DCDC_XP_POWER_JTDxxxxxxx_THT
pins: 1 +VIN (power), 2 -VIN (power), 3 +VOUT (power), 4 Trim (in), 5 -VOUT (power), 6 On/~{{Off}} (in)

## JTD1524S05
designator *  value JTD1524S05
ki_keywords: isolated isolation dc-dc converter step-down; ki_description: Isolated 15W 4:1 input DC/DC converter module, 9-36V input voltage, 5V output voltage, DIP; ki_fp_filters: Converter*DCDC*XP?POWER*JTDxxxxxxx*; Footprint: Converter_DCDC:Converter_DCDC_XP_POWER_JTDxxxxxxx_THT; Supplier: https://www.xppower.com/portals/0/pdfs/SF_JTD15.pdf
footprint Converter_DCDC_XP_POWER_JTDxxxxxxx_THT
pins: 1 +VIN (power), 2 -VIN (power), 3 +VOUT (power), 4 Trim (in), 5 -VOUT (power), 6 On/~{{Off}} (in)

## JTD1524S12
designator *  value JTD1524S12
ki_keywords: isolated isolation dc-dc converter step-down; ki_description: Isolated 15W 4:1 input DC/DC converter module, 9-36V input voltage, 12V output voltage, DIP; ki_fp_filters: Converter*DCDC*XP?POWER*JTDxxxxxxx*; Footprint: Converter_DCDC:Converter_DCDC_XP_POWER_JTDxxxxxxx_THT; Supplier: https://www.xppower.com/portals/0/pdfs/SF_JTD15.pdf
footprint Converter_DCDC_XP_POWER_JTDxxxxxxx_THT
pins: 1 +VIN (power), 2 -VIN (power), 3 +VOUT (power), 4 Trim (in), 5 -VOUT (power), 6 On/~{{Off}} (in)

## JTD1524S15
designator *  value JTD1524S15
ki_keywords: isolated isolation dc-dc converter step-down; ki_description: Isolated 15W 4:1 input DC/DC converter module, 9-36V input voltage, 15V output voltage, DIP; ki_fp_filters: Converter*DCDC*XP?POWER*JTDxxxxxxx*; Footprint: Converter_DCDC:Converter_DCDC_XP_POWER_JTDxxxxxxx_THT; Supplier: https://www.xppower.com/portals/0/pdfs/SF_JTD15.pdf
footprint Converter_DCDC_XP_POWER_JTDxxxxxxx_THT
pins: 1 +VIN (power), 2 -VIN (power), 3 +VOUT (power), 4 Trim (in), 5 -VOUT (power), 6 On/~{{Off}} (in)

## JTD1548D05
designator *  value JTD1548D05
ki_keywords: isolated isolation dc-dc converter step-down dual; ki_description: Isolated 15W 4:1 input DC/DC converter module, 18-75V input voltage, +/-5V output voltage, DIP; ki_fp_filters: Converter*DCDC*XP?POWER*JTDxxxxxxx*; Footprint: Converter_DCDC:Converter_DCDC_XP_POWER_JTDxxxxxxx_THT; Supplier: https://www.xppower.com/portals/0/pdfs/SF_JTD15.pdf
footprint Converter_DCDC_XP_POWER_JTDxxxxxxx_THT
pins: 1 +VIN (power), 2 -VIN (power), 3 +VOUT (power), 4 Common (power), 5 -VOUT (power), 6 On/~{{Off}} (in)